# Altium schematic symbol library 000169(Quick_Fire_TK_USBC).SchLib: 4 symbols
Pins are listed as number, name and electrical type; pins without a type are passive.

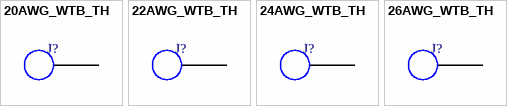
[diagram p0: symbols 20AWG_WTB_TH to 26AWG_WTB_TH]

## 20AWG_WTB_TH
designator J?  (no BOM)
20AWG Wire to Board Through Hole
footprint 20AWG_WTB_TH (20AWG Wire to Board Through Hole / Hole Diameter is 15% larger than conductor diameter)
pins: 1 PIN

## 22AWG_WTB_TH
designator J?  (no BOM)
22AWG Wire to Board Through Hole
footprint 22AWG_WTB_TH (22AWG Wire to Board Through Hole / Hole Diameter is 15% larger than conductor diameter)
pins: 1 PIN

## 24AWG_WTB_TH
designator J?  (no BOM)
24AWG Wire to Board Through Hole
footprint 24AWG_WTB_TH (24AWG Wire to Board Through Hole / Hole Diameter is 15% larger than conductor diameter)
pins: 1 PIN

## 26AWG_WTB_TH
designator J?  (no BOM)
26AWG Wire to Board Through Hole
footprint 26AWG_WTB_TH (26AWG Wire to Board Through Hole / Hole Diameter is 15% larger than conductor diameter)
pins: 1 PIN